# EAGLE library part GY31_TCS230 (library icaro)
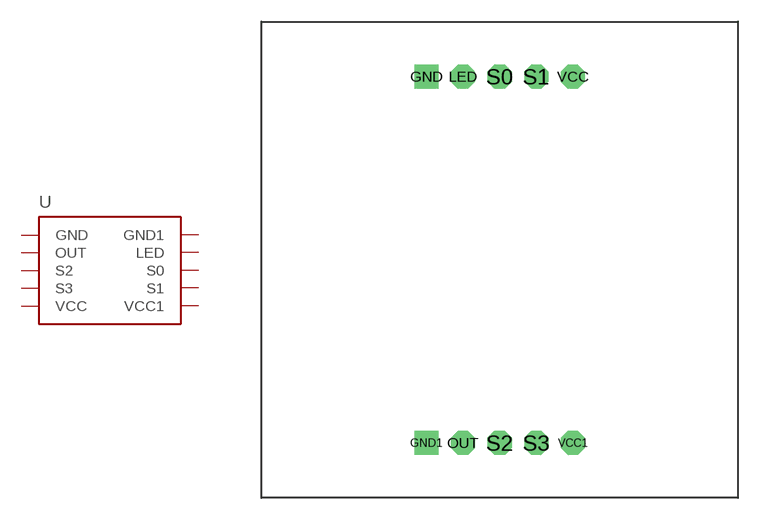
[diagram p0: symbol with the pads of GY31TCS230; footprint GY31TCS230]

Designator prefix -

## GY31_TCS230  [GY31TCS230]
GND  GND
GND1  GND1
LED  LED
OUT  OUT
S0  S0
S1  S1
S2  S2
S3  S3
VCC  VCC
VCC1  VCC1

## Footprint GY31TCS230 (pad centres in mm)
drill 0.65 pad 1.676 square: GND -5.08,12.7; GND1 -5.08,-12.7
drill 0.65 pad 1.676 octagon: LED -2.54,12.7; OUT -2.54,-12.7; S0 0,12.7; S1 2.54,12.7; S2 0,-12.7; S3 2.54,-12.7; VCC 5.08,12.7; VCC1 5.08,-12.7